# EAGLE library part TC4051 (library TC4051)
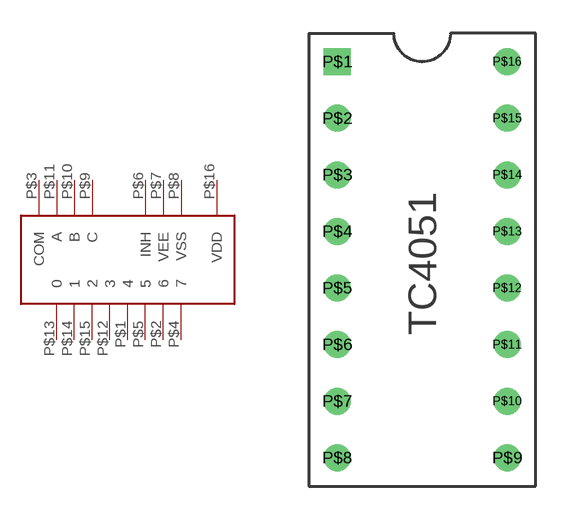
[diagram p0: symbol with the pads of TC4051; footprint TC4051]

Designator prefix -

## TC4051  [TC4051]
P$1  4
P$2  6
P$3  COM
P$4  7
P$5  5
P$6  INH
P$7  VEE
P$8  VSS
P$9  C
P$10  B
P$11  A
P$12  3
P$13  0
P$14  1
P$15  2
P$16  VDD

## Footprint TC4051 (pad centres in mm)
drill 0.7 square: P$1 0,0
drill 0.7: P$2 0,-2.54; P$3 0,-5.08; P$4 0,-7.62; P$5 0,-10.16; P$6 0,-12.7; P$7 0,-15.24; P$8 0,-17.78; P$9 7.62,-17.78; P$10 7.62,-15.24; P$11 7.62,-12.7; P$12 7.62,-10.16; P$13 7.62,-7.62; P$14 7.62,-5.08; P$15 7.62,-2.54; P$16 7.62,0